# Altium integrated library Digital_IC.IntLib: 23 symbols
Pins are listed as number, name and electrical type; pins without a type are passive.

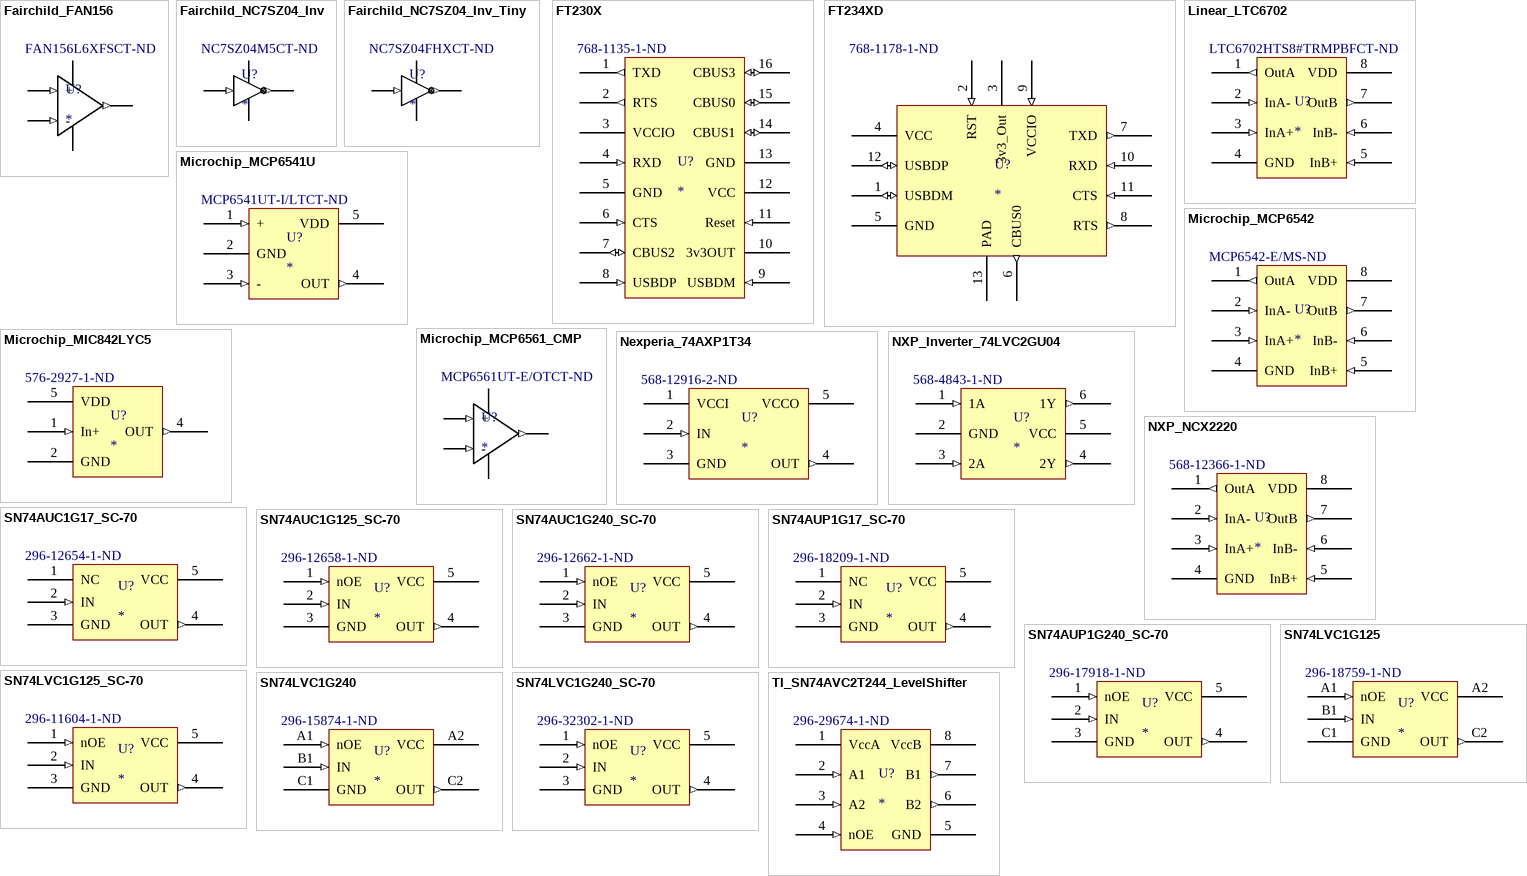
[diagram p0: symbols Fairchild_FAN156 to TI_SN74AVC2T244_LevelShifter]

## Fairchild_FAN156
designator U?  Supplier Part Number 1: FAN156L6XFSCT-ND
Low Voltage Comparator; Supplier 1: Digi-Key
footprint Fairchild_FAN156_PSON6 (PSON, 6-Leads, Body 1.45x1.00mm, Pitch 0.50mm, IPC High Density)
pins: 1 OUT (out), 2 VSS (power), 3 + (in), 4 - (in), 6 VDD (power)

## Fairchild_NC7SZ04_Inv
designator U?  Supplier Part Number 1: NC7SZ04M5CT-ND
Inverter; Supplier 1: Digi-Key
footprint Microchip_MCP6561_SOT23-5 (SOT23, 5-Leads, Body 2.90x2.70mm, Pitch 0.95mm, IPC High Density)
pins: 2 A (in), 3 GND (power), 4 Y (out), 5 VCC (power)

## Fairchild_NC7SZ04_Inv_Tiny
designator U?  Supplier Part Number 1: NC7SZ04FHXCT-ND
Inverter Tiny; Supplier 1: Digi-Key
footprint Fairchild_NC7SZ04_PSON1x1mm_6 (PSON, 6-Leads, Body 1.00x1.00mm, Pitch 0.35mm, IPC High Density)
pins: 2 A (in), 3 GND (power), 4 Y (out), 6 VCC (power)

## FT230X
designator U?  Supplier Part Number 1: 768-1135-1-ND
USB to UART; Supplier 1: Digi-Key
footprint FTDI_F230X (SOP, 16-Leads, Body 4.90x3.90mm, Pitch 0.64mm, IPC High Density)
pins: 1 TXD (out), 2 RTS (out), 3 VCCIO (power), 4 RXD (in), 5 GND (power), 6 CTS (in), 7 CBUS2 (io), 8 USBDP (in), 9 USBDM (in), 10 3v3OUT (power), 11 Reset (in), 12 VCC (power), 13 GND (power), 14 CBUS1 (io), 15 CBUS0 (io), 16 CBUS3 (io)

## FT234XD
designator U?  Supplier Part Number 1: 768-1178-1-ND
USB to UART; Supplier 1: Digikey
footprint FT234XD-R SON-12 (SON, 12-Leads, Body 3.00x3.00mm, Pitch 0.45mm, Thermal Pad 2.48x1.58mm, IPC High Density)
pins: 1 USBDM (io), 2 RST (in), 3 3v3_Out (power), 4 VCC (power), 5 GND (power), 6 CBUS0 (out), 7 TXD (out), 8 RTS (out), 9 VCCIO (in), 10 RXD (in), 11 CTS (in), 12 USBDP (io), 13 PAD (power)

## Linear_LTC6702
designator U?  Supplier Part Number 1: LTC6702HTS8#TRMPBFCT-ND
Dual Low Voltage Comparators, 500ns; Supplier 1: Digikey
footprint LTC_LTC6702_TS8 (TSOP, 8-Leads, Body 2.90x1.63mm, Pitch 0.65mm, IPC High Density)
pins: 1 OutA (out), 2 InA- (in), 3 InA+ (in), 4 GND (power), 5 InB+ (in), 6 InB- (in), 7 OutB (out), 8 VDD (power)

## Microchip_MCP6541U
designator U?  Supplier Part Number 1: MCP6541UT-I/LTCT-ND
sub1uA comparator PP; Supplier 1: Digi-Key
footprint TI_SN74LVC1G125/240_SOT235 (SOT23, 5-Leads, Body 2.00x2.10mm, Pitch 0.65mm, IPC High Density)
pins: 1 + (in), 2 GND (power), 3 - (in), 4 OUT (out), 5 VDD (power)

## Microchip_MCP6542
designator U?  Supplier Part Number 1: MCP6542-E/MS-ND
Dual Low Voltage Comparators, 4us; Supplier 1: Digikey
footprint Microchip_MCP6542_MSOP-8 (TSOP, 8-Leads, Body 3.00x3.00mm, Pitch 0.65mm, IPC High Density)
pins: 1 OutA (out), 2 InA- (in), 3 InA+ (in), 4 GND (power), 5 InB+ (in), 6 InB- (in), 7 OutB (out), 8 VDD (power)

## Microchip_MCP6561_CMP
designator U?  Supplier Part Number 1: MCP6561UT-E/OTCT-ND
1.8v PP Comparator; Supplier 1: Digi-Key
footprint Microchip_MCP6561_SOT23-5 (SOT23, 5-Leads, Body 2.90x2.70mm, Pitch 0.95mm, IPC High Density)
pins: 1 + (in), 2 VSS (power), 3 - (in), 4 OUT (out), 5 VDD (power)

## Microchip_MIC842LYC5
designator U?  Supplier Part Number 1: 576-2927-1-ND
Comparator w/1.24v reference Active High; Supplier 1: Digi-Key
footprint Microcihp_MIC842_SC70-5 (SOT23, 5-Leads, Body 2.03x2.10mm, Pitch 0.65mm, IPC High Density)
pins: 1 In+ (in), 2 GND (power), 4 OUT (out), 5 VDD (power)

## Nexperia_74AXP1T34
designator U?  Supplier Part Number 1: 568-12916-2-ND
Unidirectoinal Level shifter; Supplier 1: Digikey
footprint Microcihp_MIC842_SC70-5 (SOT23, 5-Leads, Body 2.03x2.10mm, Pitch 0.65mm, IPC High Density)
pins: 1 VCCI (power), 2 IN (in), 3 GND (power), 4 OUT (out), 5 VCCO (power)

## NXP_Inverter_74LVC2GU04
designator U?  Supplier Part Number 1: 568-4843-1-ND
Supplier 1: Digi-Key
footprint NXP_74LVC2GU04_TSOP6 (TSOP, 6-Leads, Body 2.90x1.50mm, Pitch 0.95mm, IPC High Density)
pins: 1 1A (in), 2 GND (power), 3 2A (in), 4 2Y (out), 5 VCC (power), 6 1Y (out)

## NXP_NCX2220
designator U?  Supplier Part Number 1: 568-12366-1-ND
Dual Low Voltage Comparators, 800ns; Supplier 1: Digikey
footprint NXP_NCX2220_TSSOP8 (TSOP, 8-Leads, Body 3.00x3.00mm, Pitch 0.65mm, IPC High Density)
pins: 1 OutA (out), 2 InA- (in), 3 InA+ (in), 4 GND (power), 5 InB+ (in), 6 InB- (in), 7 OutB (out), 8 VDD (power)

## SN74AUC1G17_SC-70
designator U?  Supplier Part Number 1: 296-12654-1-ND
Single Schmidtt Buffer; Supplier 1: Digi-Key
footprint TI_SN74LVC1G125/240_SOT235 (SOT23, 5-Leads, Body 2.00x2.10mm, Pitch 0.65mm, IPC High Density)
pins: 1 NC, 2 IN (in), 3 GND (power), 4 OUT (out), 5 VCC (power)

## SN74AUC1G125_SC-70
designator U?  Supplier Part Number 1: 296-12658-1-ND
Single Bit Buffer Gate nINV 3state; Supplier 1: Digi-Key
footprint TI_SN74LVC1G125/240_SOT235 (SOT23, 5-Leads, Body 2.00x2.10mm, Pitch 0.65mm, IPC High Density)
pins: 1 nOE (in), 2 IN (in), 3 GND (power), 4 OUT (out), 5 VCC (power)

## SN74AUC1G240_SC-70
designator U?  Supplier Part Number 1: 296-12662-1-ND
Single Bit Buffer Gate INV 3state; Supplier 1: Digi-Key
footprint TI_SN74LVC1G125/240_SOT235 (SOT23, 5-Leads, Body 2.00x2.10mm, Pitch 0.65mm, IPC High Density)
pins: 1 nOE (in), 2 IN (in), 3 GND (power), 4 OUT (out), 5 VCC (power)

## SN74AUP1G17_SC-70
designator U?  Supplier Part Number 1: 296-18209-1-ND
Single Schmidtt Buffer; Supplier 1: Digi-Key
footprint TI_SN74LVC1G125/240_SOT235 (SOT23, 5-Leads, Body 2.00x2.10mm, Pitch 0.65mm, IPC High Density)
pins: 1 NC, 2 IN (in), 3 GND (power), 4 OUT (out), 5 VCC (power)

## SN74AUP1G240_SC-70
designator U?  Supplier Part Number 1: 296-17918-1-ND
Single Bit Buffer Gate INV 3state; Supplier 1: Digi-Key
footprint TI_SN74LVC1G125/240_SOT235 (SOT23, 5-Leads, Body 2.00x2.10mm, Pitch 0.65mm, IPC High Density)
pins: 1 nOE (in), 2 IN (in), 3 GND (power), 4 OUT (out), 5 VCC (power)

## SN74LVC1G125
designator U?  Supplier Part Number 1: 296-18759-1-ND
Single Bit Buffer Gate nINV 3state; Supplier 1: Digi-Key
footprint TI_sn74lvc1g125/240_XBGA5 (BGA, 5-Leads, Body 0.90x1.40mmx0.50mm, Pitch 0.50mm)
pins: A1 nOE (in), A2 VCC (power), B1 IN (in), C1 GND (power), C2 OUT (out)

## SN74LVC1G125_SC-70
designator U?  Supplier Part Number 1: 296-11604-1-ND
Single Bit Buffer Gate nINV 3state; Supplier 1: Digi-Key
footprint TI_SN74LVC1G125/240_SOT235 (SOT23, 5-Leads, Body 2.00x2.10mm, Pitch 0.65mm, IPC High Density)
pins: 1 nOE (in), 2 IN (in), 3 GND (power), 4 OUT (out), 5 VCC (power)

## SN74LVC1G240
designator U?  Supplier Part Number 1: 296-15874-1-ND
Single Bit Buffer Gate INV 3state; Supplier 1: Digi-Key
footprint TI_sn74lvc1g125/240_XBGA5 (BGA, 5-Leads, Body 0.90x1.40mmx0.50mm, Pitch 0.50mm)
pins: A1 nOE (in), A2 VCC (power), B1 IN (in), C1 GND (power), C2 OUT (out)

## SN74LVC1G240_SC-70
designator U?  Supplier Part Number 1: 296-32302-1-ND
Single Bit Buffer Gate INV 3state; Supplier 1: Digi-Key
footprint TI_SN74LVC1G125/240_SOT235 (SOT23, 5-Leads, Body 2.00x2.10mm, Pitch 0.65mm, IPC High Density)
pins: 1 nOE (in), 2 IN (in), 3 GND (power), 4 OUT (out), 5 VCC (power)

## TI_SN74AVC2T244_LevelShifter
designator U?  Supplier Part Number 1: 296-29674-1-ND
Supplier 1: Digi-Key
footprint TI_SN74AVC2T244_QFN8 (QFN, 8-Leads, Body 1.00x1.40mm, Pitch 0.35mm, IPC High Density)
pins: 1 VccA (power), 2 A1 (in), 3 A2 (in), 4 nOE (in), 5 GND (power), 6 B2 (out), 7 B1 (out), 8 VccB (power)